# Altium footprint library MURATA_GRM155C71C105KE11D_0.pcblib: 5 footprints
Each footprint in its own frame and in the unit in brackets; x right, y up, seen from the top. Pads: shape width x height; smd on the part's side, far side on the other; paste and mask are expansions set on the pad; w line width, h text height; cw(c..) or ccw(c..) is an arc to the next point about the centre after c.
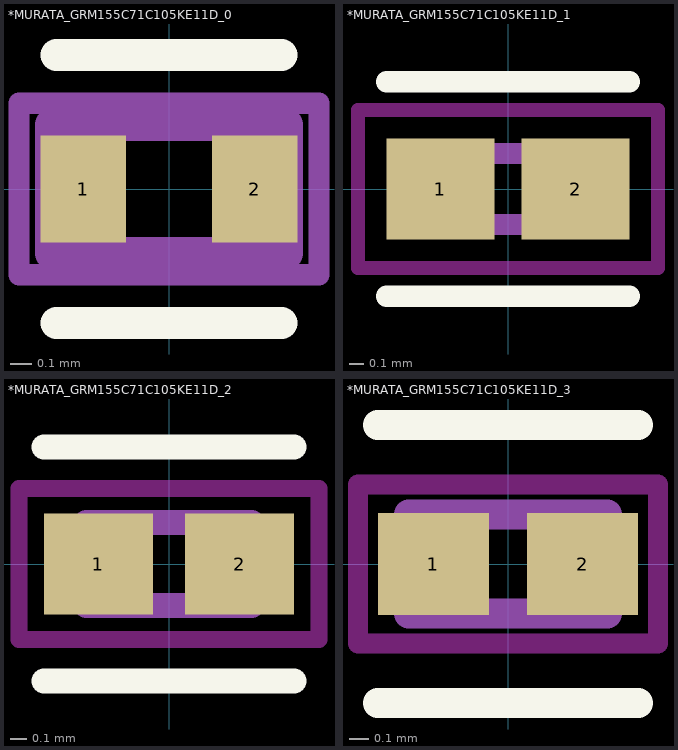
[diagram p0: the footprints below, top view; thin cyan lines are the x and y axes]

## *MURATA_GRM155C71C105KE11D_0 [mm]
height 0.6
pads (2):
  rect 0.4x0.5 smd: 1(-0.4,0) 2(0.4,0)
Top Overlay:
  lines w0.15: -0.525,-0.625 0.525,-0.625 ; -0.525,0.625 0.525,0.625
Mechanical 4:
  lines w0.15: -0.55,-0.3 0.55,-0.3 ; -0.55,-0.3 -0.55,0.3 ; -0.55,-0.3 0.55,-0.3 ; -0.55,-0.3 -0.55,0.3 ; -0.55,0.3 0.55,0.3 ; -0.55,0.3 0.55,0.3 ; 0.55,-0.3 0.55,0.3 ; 0.55,-0.3 0.55,0.3
Top Courtyard:
  lines w0.1: -0.7,-0.4 0.7,-0.4 ; -0.7,-0.4 -0.7,0.4 ; -0.7,-0.4 0.7,-0.4 ; -0.7,-0.4 -0.7,0.4 ; -0.7,-0.4 0.7,-0.4 ; -0.7,-0.4 -0.7,0.4 ; -0.7,0.4 0.7,0.4 ; -0.7,0.4 0.7,0.4 ; -0.7,0.4 0.7,0.4 ; 0.7,-0.4 0.7,0.4 ; 0.7,-0.4 0.7,0.4 ; 0.7,-0.4 0.7,0.4
3D body: height 0.6, standoff 0, extent -0.55,-0.3 0.55,0.3

## *MURATA_GRM155C71C105KE11D_1 [mm]
pads (2):
  rect 0.76x0.712 smd: 1(-0.476,0) 2(0.476,0)
Top Overlay:
  lines w0.15: -0.856,-0.756 0.856,-0.756 ; -0.856,0.756 0.856,0.756
Keep-Out Layer:
  lines w0.1: -1.056,-0.556 1.056,-0.556 ; -1.056,-0.556 -1.056,0.556 ; -1.056,-0.556 1.056,-0.556 ; -1.056,-0.556 -1.056,0.556 ; -1.056,-0.556 1.056,-0.556 ; -1.056,-0.556 -1.056,0.556 ; -1.056,0.556 1.056,0.556 ; -1.056,0.556 1.056,0.556 ; -1.056,0.556 1.056,0.556 ; 1.056,-0.556 1.056,0.556 ; 1.056,-0.556 1.056,0.556 ; 1.056,-0.556 1.056,0.556
Mechanical 4:
  lines w0.15: -0.5,-0.25 0.5,-0.25 ; -0.5,-0.25 -0.5,0.25 ; -0.5,-0.25 0.5,-0.25 ; -0.5,-0.25 -0.5,0.25 ; -0.5,0.25 0.5,0.25 ; -0.5,0.25 0.5,0.25 ; 0.5,-0.25 0.5,0.25 ; 0.5,-0.25 0.5,0.25

## *MURATA_GRM155C71C105KE11D_2 [mm]
pads (2):
  rect 0.66x0.612 smd: 1(-0.426,0) 2(0.426,0)
Top Overlay:
  lines w0.15: -0.756,-0.706 0.756,-0.706 ; -0.756,0.706 0.756,0.706
Keep-Out Layer:
  lines w0.1: -0.906,-0.456 0.906,-0.456 ; -0.906,-0.456 -0.906,0.456 ; -0.906,-0.456 0.906,-0.456 ; -0.906,-0.456 -0.906,0.456 ; -0.906,-0.456 0.906,-0.456 ; -0.906,-0.456 -0.906,0.456 ; -0.906,0.456 0.906,0.456 ; -0.906,0.456 0.906,0.456 ; -0.906,0.456 0.906,0.456 ; 0.906,-0.456 0.906,0.456 ; 0.906,-0.456 0.906,0.456 ; 0.906,-0.456 0.906,0.456
Mechanical 4:
  lines w0.15: -0.5,-0.25 0.5,-0.25 ; -0.5,-0.25 -0.5,0.25 ; -0.5,-0.25 0.5,-0.25 ; -0.5,-0.25 -0.5,0.25 ; -0.5,0.25 0.5,0.25 ; -0.5,0.25 0.5,0.25 ; 0.5,-0.25 0.5,0.25 ; 0.5,-0.25 0.5,0.25

## *MURATA_GRM155C71C105KE11D_3 [mm]
pads (2):
  rect 0.56x0.512 smd: 1(-0.376,0) 2(0.376,0)
Top Overlay:
  lines w0.15: -0.656,-0.7 0.656,-0.7 ; -0.656,0.7 0.656,0.7
Keep-Out Layer:
  lines w0.1: -0.756,-0.4 0.756,-0.4 ; -0.756,-0.4 -0.756,0.4 ; -0.756,-0.4 0.756,-0.4 ; -0.756,-0.4 -0.756,0.4 ; -0.756,-0.4 0.756,-0.4 ; -0.756,-0.4 -0.756,0.4 ; -0.756,0.4 0.756,0.4 ; -0.756,0.4 0.756,0.4 ; -0.756,0.4 0.756,0.4 ; 0.756,-0.4 0.756,0.4 ; 0.756,-0.4 0.756,0.4 ; 0.756,-0.4 0.756,0.4
Mechanical 4:
  lines w0.15: -0.5,-0.25 0.5,-0.25 ; -0.5,-0.25 -0.5,0.25 ; -0.5,-0.25 0.5,-0.25 ; -0.5,-0.25 -0.5,0.25 ; -0.5,0.25 0.5,0.25 ; -0.5,0.25 0.5,0.25 ; 0.5,-0.25 0.5,0.25 ; 0.5,-0.25 0.5,0.25

## PCBComponent_1 [mm]